# Altium schematic symbol library LM3940.SchLib: 1 symbol
Pins are listed as number, name and electrical type; pins without a type are passive.

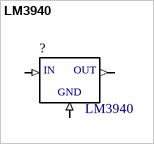
[diagram p0: symbol LM3940]

## LM3940
designator ?
MF: Millstead; Availability: Unavailable; Price: None; Package: None; MP: LM3940; SnapEDA_Link: https://www.snapeda.com/parts/LM3940/Millstead/view-part/?ref=snap; Value: *
footprint TO220
pins: 1 IN (in), 2 GND (in), 3 OUT (out)